# Altium schematic symbol library jlcpcb_2025_04_inductors_extended_1206.schlib: 159 symbols (part 1 of 3)
Pins are listed as number, name and electrical type; pins without a type are passive.

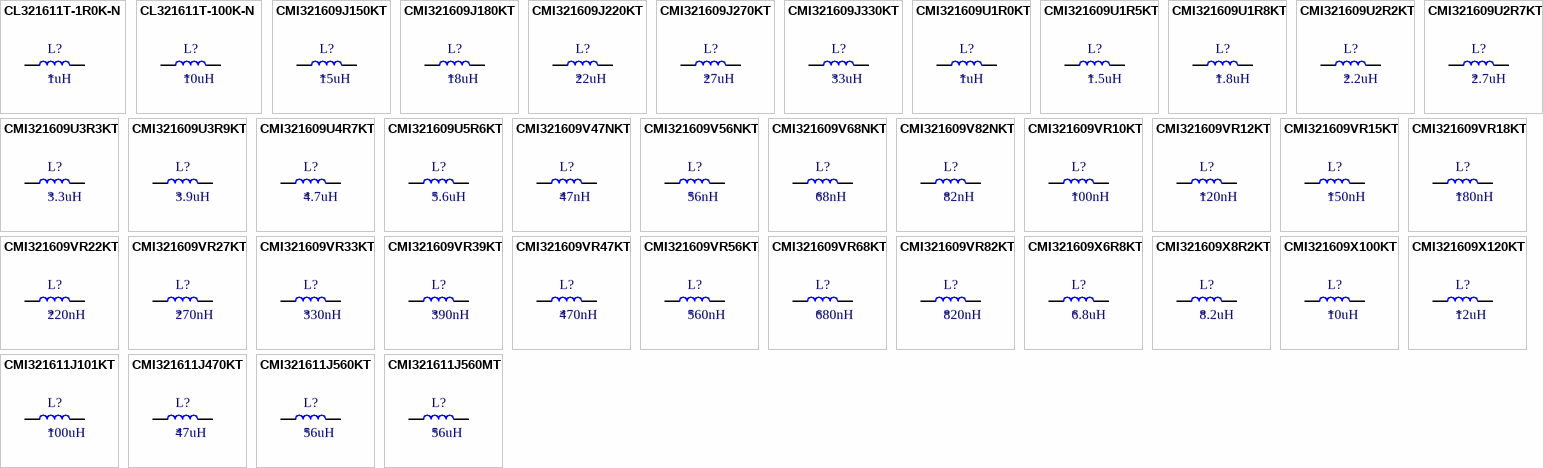
[diagram p0: symbols CL321611T-1R0K-N to CMI321611J560MT]

## CL321611T-1R0K-N
designator L?  Inductance: 1uH
Inductor, 1uH, ±10%, 400mΩ, 100mA, SMD 1206; Manufacturer: Chilisin Elec; Manufacturer Part Number: CL321611T-1R0K-N; Self-Resonant Frequency: 75MHz; Q Factor: 45@10MHz; Package Size: 1206; JLCPCB Basic Part: No; JLCPCB Part Number: C142261; Supplier 1: LCSC; Category: Inductors; Supplier Part Number 1: C142261; Tolerance: ±10%; Rated Current: 100mA; DC Resistance: 400mΩ; RoHS: Yes; ComponentLink1Description: Datasheet; ComponentLink1URL: https://wmsc.lcsc.com/wmsc/upload/file/pdf/v2/lcsc/2304140030_Chilisin-Elec-CL321611T-1R0K-N_C142261.pdf; ComponentLink2Description: JLCPCB Part URL; ComponentLink2URL: https://jlcpcb.com/partdetail/C142261; ComponentLink3Description: LCSC Part URL; ComponentLink3URL: https://lcsc.com/product-detail/Inductors-SMD_Chilisin-Elec-Chilisin-Elec-CL321611T-1R0K-N_C142261.html
footprint IND-1206 (1206 (3216M) Inductor)
pins: 1, 2

## CL321611T-100K-N
designator L?  Inductance: 10uH
Inductor, 10uH, ±10%, 1Ω, 25mA, SMD 1206; Manufacturer: Chilisin Elec; Manufacturer Part Number: CL321611T-100K-N; Self-Resonant Frequency: 24MHz; Q Factor: 45@2MHz; Package Size: 1206; JLCPCB Basic Part: No; JLCPCB Part Number: C280246; Supplier 1: LCSC; Category: Inductors; Supplier Part Number 1: C280246; Tolerance: ±10%; Rated Current: 25mA; DC Resistance: 1Ω; RoHS: Yes; ComponentLink1Description: Datasheet; ComponentLink1URL: https://wmsc.lcsc.com/wmsc/upload/file/pdf/v2/lcsc/2304140030_Chilisin-Elec-CL321611T-100K-N_C280246.pdf; ComponentLink2Description: JLCPCB Part URL; ComponentLink2URL: https://jlcpcb.com/partdetail/C280246; ComponentLink3Description: LCSC Part URL; ComponentLink3URL: https://lcsc.com/product-detail/Inductors-SMD_Chilisin-Elec-Chilisin-Elec-CL321611T-100K-N_C280246.html
footprint IND-1206 (1206 (3216M) Inductor)
pins: 1, 2

## CMI321609J150KT
designator L?  Inductance: 15uH
Inductor, 15uH, ±10%, 1Ω, 5mA, SMD 1206; Manufacturer: FH(Guangdong Fenghua Advanced Tech); Manufacturer Part Number: CMI321609J150KT; Self-Resonant Frequency: 19MHz; Q Factor: 30@1MHz; Package Size: 1206; JLCPCB Basic Part: No; JLCPCB Part Number: C139234; Supplier 1: LCSC; Category: Inductors; Supplier Part Number 1: C139234; Tolerance: ±10%; Rated Current: 5mA; DC Resistance: 1Ω; RoHS: Yes; ComponentLink1Description: Datasheet; ComponentLink1URL: https://wmsc.lcsc.com/wmsc/upload/file/pdf/v2/lcsc/2302231230_FH--Guangdong-Fenghua-Advanced-Tech-CMI321609J150KT_C139234.pdf; ComponentLink2Description: JLCPCB Part URL; ComponentLink2URL: https://jlcpcb.com/partdetail/C139234; ComponentLink3Description: LCSC Part URL; ComponentLink3URL: https://lcsc.com/product-detail/Inductors-SMD_FH-Guangdong-Fenghua-Advanced-Tech-FH-Guangdong-Fenghua-Advanced-Tech-CMI321609J150KT_C139234.html
footprint IND-1206 (1206 (3216M) Inductor)
pins: 1, 2

## CMI321609J180KT
designator L?  Inductance: 18uH
Inductor, 18uH, ±10%, 1Ω, 5mA, SMD 1206; Manufacturer: FH(Guangdong Fenghua Advanced Tech); Manufacturer Part Number: CMI321609J180KT; Self-Resonant Frequency: 18MHz; Q Factor: 30@1MHz; Package Size: 1206; JLCPCB Basic Part: No; JLCPCB Part Number: C316445; Supplier 1: LCSC; Category: Inductors; Supplier Part Number 1: C316445; Tolerance: ±10%; Rated Current: 5mA; DC Resistance: 1Ω; RoHS: Yes; ComponentLink1Description: Datasheet; ComponentLink1URL: https://wmsc.lcsc.com/wmsc/upload/file/pdf/v2/lcsc/2302231208_FH--Guangdong-Fenghua-Advanced-Tech-CMI321609J180KT_C316445.pdf; ComponentLink2Description: JLCPCB Part URL; ComponentLink2URL: https://jlcpcb.com/partdetail/C316445; ComponentLink3Description: LCSC Part URL; ComponentLink3URL: https://lcsc.com/product-detail/Inductors-SMD_FH-Guangdong-Fenghua-Advanced-Tech-FH-Guangdong-Fenghua-Advanced-Tech-CMI321609J180KT_C316445.html
footprint IND-1206 (1206 (3216M) Inductor)
pins: 1, 2

## CMI321609J220KT
designator L?  Inductance: 22uH
Inductor, 22uH, ±10%, 1.2Ω, 5mA, SMD 1206; Manufacturer: FH(Guangdong Fenghua Advanced Tech); Manufacturer Part Number: CMI321609J220KT; Self-Resonant Frequency: 16MHz; Q Factor: 30@1MHz; Package Size: 1206; JLCPCB Basic Part: No; JLCPCB Part Number: C64476; Supplier 1: LCSC; Category: Inductors; Supplier Part Number 1: C64476; Tolerance: ±10%; Rated Current: 5mA; DC Resistance: 1.2Ω; RoHS: Yes; ComponentLink1Description: Datasheet; ComponentLink1URL: https://wmsc.lcsc.com/wmsc/upload/file/pdf/v2/lcsc/2302231300_FH--Guangdong-Fenghua-Advanced-Tech-CMI321609J220KT_C64476.pdf; ComponentLink2Description: JLCPCB Part URL; ComponentLink2URL: https://jlcpcb.com/partdetail/C64476; ComponentLink3Description: LCSC Part URL; ComponentLink3URL: https://lcsc.com/product-detail/Inductors-SMD_FH-Guangdong-Fenghua-Advanced-Tech-FH-Guangdong-Fenghua-Advanced-Tech-CMI321609J220KT_C64476.html
footprint IND-1206 (1206 (3216M) Inductor)
pins: 1, 2

## CMI321609J270KT
designator L?  Inductance: 27uH
Inductor, 27uH, ±10%, 1.2Ω, 5mA, SMD 1206; Manufacturer: FH(Guangdong Fenghua Advanced Tech); Manufacturer Part Number: CMI321609J270KT; Self-Resonant Frequency: 14MHz; Q Factor: 30@1MHz; Package Size: 1206; JLCPCB Basic Part: No; JLCPCB Part Number: C394974; Supplier 1: LCSC; Category: Inductors; Supplier Part Number 1: C394974; Tolerance: ±10%; Rated Current: 5mA; DC Resistance: 1.2Ω; RoHS: Yes; ComponentLink1Description: Datasheet; ComponentLink1URL: https://wmsc.lcsc.com/wmsc/upload/file/pdf/v2/lcsc/2302231030_FH--Guangdong-Fenghua-Advanced-Tech-CMI321609J270KT_C394974.pdf; ComponentLink2Description: JLCPCB Part URL; ComponentLink2URL: https://jlcpcb.com/partdetail/C394974; ComponentLink3Description: LCSC Part URL; ComponentLink3URL: https://lcsc.com/product-detail/Inductors-SMD_FH-Guangdong-Fenghua-Advanced-Tech-FH-Guangdong-Fenghua-Advanced-Tech-CMI321609J270KT_C394974.html
footprint IND-1206 (1206 (3216M) Inductor)
pins: 1, 2

## CMI321609J330KT
designator L?  Inductance: 33uH
Inductor, 33uH, ±10%, 1.3Ω, 5mA, SMD 1206; Manufacturer: FH(Guangdong Fenghua Advanced Tech); Manufacturer Part Number: CMI321609J330KT; Self-Resonant Frequency: 13MHz; Q Factor: 30@1MHz; Package Size: 1206; JLCPCB Basic Part: No; JLCPCB Part Number: C316444; Supplier 1: LCSC; Category: Inductors; Supplier Part Number 1: C316444; Tolerance: ±10%; Rated Current: 5mA; DC Resistance: 1.3Ω; RoHS: Yes; ComponentLink1Description: Datasheet; ComponentLink1URL: https://wmsc.lcsc.com/wmsc/upload/file/pdf/v2/lcsc/2302231208_FH--Guangdong-Fenghua-Advanced-Tech-CMI321609J330KT_C316444.pdf; ComponentLink2Description: JLCPCB Part URL; ComponentLink2URL: https://jlcpcb.com/partdetail/C316444; ComponentLink3Description: LCSC Part URL; ComponentLink3URL: https://lcsc.com/product-detail/Inductors-SMD_FH-Guangdong-Fenghua-Advanced-Tech-FH-Guangdong-Fenghua-Advanced-Tech-CMI321609J330KT_C316444.html
footprint IND-1206 (1206 (3216M) Inductor)
pins: 1, 2

## CMI321609U1R0KT
designator L?  Inductance: 1uH
Inductor, 1uH, ±10%, 300mΩ, 100mA, SMD 1206; Manufacturer: FH(Guangdong Fenghua Advanced Tech); Manufacturer Part Number: CMI321609U1R0KT; Self-Resonant Frequency: 75MHz; Q Factor: 35@10MHz; Package Size: 1206; JLCPCB Basic Part: No; JLCPCB Part Number: C74473; Supplier 1: LCSC; Category: Inductors; Supplier Part Number 1: C74473; Tolerance: ±10%; Rated Current: 100mA; DC Resistance: 300mΩ; RoHS: Yes; ComponentLink1Description: Datasheet; ComponentLink1URL: https://wmsc.lcsc.com/wmsc/upload/file/pdf/v2/lcsc/2302231101_FH--Guangdong-Fenghua-Advanced-Tech-CMI321609U1R0KT_C74473.pdf; ComponentLink2Description: JLCPCB Part URL; ComponentLink2URL: https://jlcpcb.com/partdetail/C74473; ComponentLink3Description: LCSC Part URL; ComponentLink3URL: https://lcsc.com/product-detail/Inductors-SMD_FH-Guangdong-Fenghua-Advanced-Tech-FH-Guangdong-Fenghua-Advanced-Tech-CMI321609U1R0KT_C74473.html
footprint IND-1206 (1206 (3216M) Inductor)
pins: 1, 2

## CMI321609U1R5KT
designator L?  Inductance: 1.5uH
Inductor, 1.5uH, ±10%, 400mΩ, 50mA, SMD 1206; Manufacturer: FH(Guangdong Fenghua Advanced Tech); Manufacturer Part Number: CMI321609U1R5KT; Self-Resonant Frequency: 60MHz; Q Factor: 35@10MHz; Package Size: 1206; JLCPCB Basic Part: No; JLCPCB Part Number: C74477; Supplier 1: LCSC; Category: Inductors; Supplier Part Number 1: C74477; Tolerance: ±10%; Rated Current: 50mA; DC Resistance: 400mΩ; RoHS: Yes; ComponentLink1Description: Datasheet; ComponentLink1URL: https://wmsc.lcsc.com/wmsc/upload/file/pdf/v2/lcsc/2302231101_FH--Guangdong-Fenghua-Advanced-Tech-CMI321609U1R5KT_C74477.pdf; ComponentLink2Description: JLCPCB Part URL; ComponentLink2URL: https://jlcpcb.com/partdetail/C74477; ComponentLink3Description: LCSC Part URL; ComponentLink3URL: https://lcsc.com/product-detail/Inductors-SMD_FH-Guangdong-Fenghua-Advanced-Tech-FH-Guangdong-Fenghua-Advanced-Tech-CMI321609U1R5KT_C74477.html
footprint IND-1206 (1206 (3216M) Inductor)
pins: 1, 2

## CMI321609U1R8KT
designator L?  Inductance: 1.8uH
Inductor, 1.8uH, ±10%, 400mΩ, 50mA, SMD 1206; Manufacturer: FH(Guangdong Fenghua Advanced Tech); Manufacturer Part Number: CMI321609U1R8KT; Self-Resonant Frequency: 55MHz; Q Factor: 35@10MHz; Package Size: 1206; JLCPCB Basic Part: No; JLCPCB Part Number: C74476; Supplier 1: LCSC; Category: Inductors; Supplier Part Number 1: C74476; Tolerance: ±10%; Rated Current: 50mA; DC Resistance: 400mΩ; RoHS: Yes; ComponentLink1Description: Datasheet; ComponentLink1URL: https://wmsc.lcsc.com/wmsc/upload/file/pdf/v2/lcsc/2302231101_FH--Guangdong-Fenghua-Advanced-Tech-CMI321609U1R8KT_C74476.pdf; ComponentLink2Description: JLCPCB Part URL; ComponentLink2URL: https://jlcpcb.com/partdetail/C74476; ComponentLink3Description: LCSC Part URL; ComponentLink3URL: https://lcsc.com/product-detail/Inductors-SMD_FH-Guangdong-Fenghua-Advanced-Tech-FH-Guangdong-Fenghua-Advanced-Tech-CMI321609U1R8KT_C74476.html
footprint IND-1206 (1206 (3216M) Inductor)
pins: 1, 2

## CMI321609U2R2KT
designator L?  Inductance: 2.2uH
Inductor, 2.2uH, ±10%, 500mΩ, 50mA, SMD 1206; Manufacturer: FH(Guangdong Fenghua Advanced Tech); Manufacturer Part Number: CMI321609U2R2KT; Self-Resonant Frequency: 50MHz; Q Factor: 35@10MHz; Package Size: 1206; JLCPCB Basic Part: No; JLCPCB Part Number: C1048; Supplier 1: LCSC; Category: Inductors; Supplier Part Number 1: C1048; Tolerance: ±10%; Rated Current: 50mA; DC Resistance: 500mΩ; RoHS: Yes; ComponentLink1Description: Datasheet; ComponentLink1URL: https://wmsc.lcsc.com/wmsc/upload/file/pdf/v2/lcsc/2302231101_FH--Guangdong-Fenghua-Advanced-Tech-CMI321609U2R2KT_C1048.pdf; ComponentLink2Description: JLCPCB Part URL; ComponentLink2URL: https://jlcpcb.com/partdetail/C1048; ComponentLink3Description: LCSC Part URL; ComponentLink3URL: https://lcsc.com/product-detail/Inductors-SMD_FH-Guangdong-Fenghua-Advanced-Tech-FH-Guangdong-Fenghua-Advanced-Tech-CMI321609U2R2KT_C1048.html
footprint IND-1206 (1206 (3216M) Inductor)
pins: 1, 2

## CMI321609U2R7KT
designator L?  Inductance: 2.7uH
Inductor, 2.7uH, ±10%, 500mΩ, 50mA, SMD 1206; Manufacturer: FH(Guangdong Fenghua Advanced Tech); Manufacturer Part Number: CMI321609U2R7KT; Self-Resonant Frequency: 45MHz; Q Factor: 35@10MHz; Package Size: 1206; JLCPCB Basic Part: No; JLCPCB Part Number: C316443; Supplier 1: LCSC; Category: Inductors; Supplier Part Number 1: C316443; Tolerance: ±10%; Rated Current: 50mA; DC Resistance: 500mΩ; RoHS: Yes; ComponentLink1Description: Datasheet; ComponentLink1URL: https://wmsc.lcsc.com/wmsc/upload/file/pdf/v2/lcsc/2302231030_FH--Guangdong-Fenghua-Advanced-Tech-CMI321609U2R7KT_C316443.pdf; ComponentLink2Description: JLCPCB Part URL; ComponentLink2URL: https://jlcpcb.com/partdetail/C316443; ComponentLink3Description: LCSC Part URL; ComponentLink3URL: https://lcsc.com/product-detail/Inductors-SMD_FH-Guangdong-Fenghua-Advanced-Tech-FH-Guangdong-Fenghua-Advanced-Tech-CMI321609U2R7KT_C316443.html
footprint IND-1206 (1206 (3216M) Inductor)
pins: 1, 2

## CMI321609U3R3KT
designator L?  Inductance: 3.3uH
Inductor, 3.3uH, ±10%, 500mΩ, 50mA, SMD 1206; Manufacturer: FH(Guangdong Fenghua Advanced Tech); Manufacturer Part Number: CMI321609U3R3KT; Self-Resonant Frequency: 41MHz; Q Factor: 35@10MHz; Package Size: 1206; JLCPCB Basic Part: No; JLCPCB Part Number: C74471; Supplier 1: LCSC; Category: Inductors; Supplier Part Number 1: C74471; Tolerance: ±10%; Rated Current: 50mA; DC Resistance: 500mΩ; RoHS: Yes; ComponentLink1Description: Datasheet; ComponentLink1URL: https://wmsc.lcsc.com/wmsc/upload/file/pdf/v2/lcsc/2302231101_FH--Guangdong-Fenghua-Advanced-Tech-CMI321609U3R3KT_C74471.pdf; ComponentLink2Description: JLCPCB Part URL; ComponentLink2URL: https://jlcpcb.com/partdetail/C74471; ComponentLink3Description: LCSC Part URL; ComponentLink3URL: https://lcsc.com/product-detail/Inductors-SMD_FH-Guangdong-Fenghua-Advanced-Tech-FH-Guangdong-Fenghua-Advanced-Tech-CMI321609U3R3KT_C74471.html
footprint IND-1206 (1206 (3216M) Inductor)
pins: 1, 2

## CMI321609U3R9KT
designator L?  Inductance: 3.9uH
Inductor, 3.9uH, ±10%, 600mΩ, 50mA, SMD 1206; Manufacturer: FH(Guangdong Fenghua Advanced Tech); Manufacturer Part Number: CMI321609U3R9KT; Self-Resonant Frequency: 38MHz; Q Factor: 35@10MHz; Package Size: 1206; JLCPCB Basic Part: No; JLCPCB Part Number: C74472; Supplier 1: LCSC; Category: Inductors; Supplier Part Number 1: C74472; Tolerance: ±10%; Rated Current: 50mA; DC Resistance: 600mΩ; RoHS: Yes; ComponentLink1Description: Datasheet; ComponentLink1URL: https://wmsc.lcsc.com/wmsc/upload/file/pdf/v2/lcsc/2302231101_FH--Guangdong-Fenghua-Advanced-Tech-CMI321609U3R9KT_C74472.pdf; ComponentLink2Description: JLCPCB Part URL; ComponentLink2URL: https://jlcpcb.com/partdetail/C74472; ComponentLink3Description: LCSC Part URL; ComponentLink3URL: https://lcsc.com/product-detail/Inductors-SMD_FH-Guangdong-Fenghua-Advanced-Tech-FH-Guangdong-Fenghua-Advanced-Tech-CMI321609U3R9KT_C74472.html
footprint IND-1206 (1206 (3216M) Inductor)
pins: 1, 2

## CMI321609U4R7KT
designator L?  Inductance: 4.7uH
Inductor, 4.7uH, ±10%, 650mΩ, 25mA, SMD 1206; Manufacturer: FH(Guangdong Fenghua Advanced Tech); Manufacturer Part Number: CMI321609U4R7KT; Self-Resonant Frequency: 35MHz; Q Factor: 35@10MHz; Package Size: 1206; JLCPCB Basic Part: No; JLCPCB Part Number: C1049; Supplier 1: LCSC; Category: Inductors; Supplier Part Number 1: C1049; Tolerance: ±10%; Rated Current: 25mA; DC Resistance: 650mΩ; RoHS: Yes; ComponentLink1Description: Datasheet; ComponentLink1URL: https://wmsc.lcsc.com/wmsc/upload/file/pdf/v2/lcsc/2302231101_FH--Guangdong-Fenghua-Advanced-Tech-CMI321609U4R7KT_C1049.pdf; ComponentLink2Description: JLCPCB Part URL; ComponentLink2URL: https://jlcpcb.com/partdetail/C1049; ComponentLink3Description: LCSC Part URL; ComponentLink3URL: https://lcsc.com/product-detail/Inductors-SMD_FH-Guangdong-Fenghua-Advanced-Tech-FH-Guangdong-Fenghua-Advanced-Tech-CMI321609U4R7KT_C1049.html
footprint IND-1206 (1206 (3216M) Inductor)
pins: 1, 2

## CMI321609U5R6KT
designator L?  Inductance: 5.6uH
Inductor, 5.6uH, ±10%, 800mΩ, 25mA, SMD 1206; Manufacturer: FH(Guangdong Fenghua Advanced Tech); Manufacturer Part Number: CMI321609U5R6KT; Self-Resonant Frequency: 32MHz; Q Factor: 35@4MHz; Package Size: 1206; JLCPCB Basic Part: No; JLCPCB Part Number: C1050; Supplier 1: LCSC; Category: Inductors; Supplier Part Number 1: C1050; Tolerance: ±10%; Rated Current: 25mA; DC Resistance: 800mΩ; RoHS: Yes; ComponentLink1Description: Datasheet; ComponentLink1URL: https://wmsc.lcsc.com/wmsc/upload/file/pdf/v2/lcsc/2302231101_FH--Guangdong-Fenghua-Advanced-Tech-CMI321609U5R6KT_C1050.pdf; ComponentLink2Description: JLCPCB Part URL; ComponentLink2URL: https://jlcpcb.com/partdetail/C1050; ComponentLink3Description: LCSC Part URL; ComponentLink3URL: https://lcsc.com/product-detail/Inductors-SMD_FH-Guangdong-Fenghua-Advanced-Tech-FH-Guangdong-Fenghua-Advanced-Tech-CMI321609U5R6KT_C1050.html
footprint IND-1206 (1206 (3216M) Inductor)
pins: 1, 2

## CMI321609V47NKT
designator L?  Inductance: 47nH
Inductor, 47nH, ±10%, 150mΩ, 300mA, SMD 1206; Manufacturer: FH(Guangdong Fenghua Advanced Tech); Manufacturer Part Number: CMI321609V47NKT; Self-Resonant Frequency: 320MHz; Q Factor: 30@50MHz; Package Size: 1206; JLCPCB Basic Part: No; JLCPCB Part Number: C394976; Supplier 1: LCSC; Category: Inductors; Supplier Part Number 1: C394976; Tolerance: ±10%; Rated Current: 300mA; DC Resistance: 150mΩ; RoHS: Yes; ComponentLink1Description: Datasheet; ComponentLink1URL: https://wmsc.lcsc.com/wmsc/upload/file/pdf/v2/lcsc/2302231030_FH--Guangdong-Fenghua-Advanced-Tech-CMI321609V47NKT_C394976.pdf; ComponentLink2Description: JLCPCB Part URL; ComponentLink2URL: https://jlcpcb.com/partdetail/C394976; ComponentLink3Description: LCSC Part URL; ComponentLink3URL: https://lcsc.com/product-detail/Inductors-SMD_FH-Guangdong-Fenghua-Advanced-Tech-FH-Guangdong-Fenghua-Advanced-Tech-CMI321609V47NKT_C394976.html
footprint IND-1206 (1206 (3216M) Inductor)
pins: 1, 2

## CMI321609V56NKT
designator L?  Inductance: 56nH
Inductor, 56nH, ±10%, 200mΩ, 300mA, SMD 1206; Manufacturer: FH(Guangdong Fenghua Advanced Tech); Manufacturer Part Number: CMI321609V56NKT; Self-Resonant Frequency: 320MHz; Q Factor: 30@50MHz; Package Size: 1206; JLCPCB Basic Part: No; JLCPCB Part Number: C394977; Supplier 1: LCSC; Category: Inductors; Supplier Part Number 1: C394977; Tolerance: ±10%; Rated Current: 300mA; DC Resistance: 200mΩ; RoHS: Yes; ComponentLink1Description: Datasheet; ComponentLink1URL: https://wmsc.lcsc.com/wmsc/upload/file/pdf/v2/lcsc/2302231030_FH--Guangdong-Fenghua-Advanced-Tech-CMI321609V56NKT_C394977.pdf; ComponentLink2Description: JLCPCB Part URL; ComponentLink2URL: https://jlcpcb.com/partdetail/C394977; ComponentLink3Description: LCSC Part URL; ComponentLink3URL: https://lcsc.com/product-detail/Inductors-SMD_FH-Guangdong-Fenghua-Advanced-Tech-FH-Guangdong-Fenghua-Advanced-Tech-CMI321609V56NKT_C394977.html
footprint IND-1206 (1206 (3216M) Inductor)
pins: 1, 2

## CMI321609V68NKT
designator L?  Inductance: 68nH
Inductor, 68nH, ±10%, 250mΩ, 300mA, SMD 1206; Manufacturer: FH(Guangdong Fenghua Advanced Tech); Manufacturer Part Number: CMI321609V68NKT; Self-Resonant Frequency: 280MHz; Q Factor: 30@50MHz; Package Size: 1206; JLCPCB Basic Part: No; JLCPCB Part Number: C394978; Supplier 1: LCSC; Category: Inductors; Supplier Part Number 1: C394978; Tolerance: ±10%; Rated Current: 300mA; DC Resistance: 250mΩ; RoHS: Yes; ComponentLink1Description: Datasheet; ComponentLink1URL: https://wmsc.lcsc.com/wmsc/upload/file/pdf/v2/lcsc/2302231030_FH--Guangdong-Fenghua-Advanced-Tech-CMI321609V68NKT_C394978.pdf; ComponentLink2Description: JLCPCB Part URL; ComponentLink2URL: https://jlcpcb.com/partdetail/C394978; ComponentLink3Description: LCSC Part URL; ComponentLink3URL: https://lcsc.com/product-detail/Inductors-SMD_FH-Guangdong-Fenghua-Advanced-Tech-FH-Guangdong-Fenghua-Advanced-Tech-CMI321609V68NKT_C394978.html
footprint IND-1206 (1206 (3216M) Inductor)
pins: 1, 2

## CMI321609V82NKT
designator L?  Inductance: 82nH
Inductor, 82nH, ±10%, 250mΩ, 300mA, SMD 1206; Manufacturer: FH(Guangdong Fenghua Advanced Tech); Manufacturer Part Number: CMI321609V82NKT; Self-Resonant Frequency: 280MHz; Q Factor: 30@50MHz; Package Size: 1206; JLCPCB Basic Part: No; JLCPCB Part Number: C394979; Supplier 1: LCSC; Category: Inductors; Supplier Part Number 1: C394979; Tolerance: ±10%; Rated Current: 300mA; DC Resistance: 250mΩ; RoHS: Yes; ComponentLink1Description: Datasheet; ComponentLink1URL: https://wmsc.lcsc.com/wmsc/upload/file/pdf/v2/lcsc/2302231030_FH--Guangdong-Fenghua-Advanced-Tech-CMI321609V82NKT_C394979.pdf; ComponentLink2Description: JLCPCB Part URL; ComponentLink2URL: https://jlcpcb.com/partdetail/C394979; ComponentLink3Description: LCSC Part URL; ComponentLink3URL: https://lcsc.com/product-detail/Inductors-SMD_FH-Guangdong-Fenghua-Advanced-Tech-FH-Guangdong-Fenghua-Advanced-Tech-CMI321609V82NKT_C394979.html
footprint IND-1206 (1206 (3216M) Inductor)
pins: 1, 2

## CMI321609VR10KT
designator L?  Inductance: 100nH
Inductor, 100nH, ±10%, 250mΩ, 250mA, SMD 1206; Manufacturer: FH(Guangdong Fenghua Advanced Tech); Manufacturer Part Number: CMI321609VR10KT; Self-Resonant Frequency: 235MHz; Q Factor: 25@25MHz; Package Size: 1206; JLCPCB Basic Part: No; JLCPCB Part Number: C139235; Supplier 1: LCSC; Category: Inductors; Supplier Part Number 1: C139235; Tolerance: ±10%; Rated Current: 250mA; DC Resistance: 250mΩ; RoHS: Yes; ComponentLink1Description: Datasheet; ComponentLink1URL: https://wmsc.lcsc.com/wmsc/upload/file/pdf/v2/lcsc/2302231230_FH--Guangdong-Fenghua-Advanced-Tech-CMI321609VR10KT_C139235.pdf; ComponentLink2Description: JLCPCB Part URL; ComponentLink2URL: https://jlcpcb.com/partdetail/C139235; ComponentLink3Description: LCSC Part URL; ComponentLink3URL: https://lcsc.com/product-detail/Inductors-SMD_FH-Guangdong-Fenghua-Advanced-Tech-FH-Guangdong-Fenghua-Advanced-Tech-CMI321609VR10KT_C139235.html
footprint IND-1206 (1206 (3216M) Inductor)
pins: 1, 2

## CMI321609VR12KT
designator L?  Inductance: 120nH
Inductor, 120nH, ±10%, 250mΩ, 250mA, SMD 1206; Manufacturer: FH(Guangdong Fenghua Advanced Tech); Manufacturer Part Number: CMI321609VR12KT; Self-Resonant Frequency: 220MHz; Q Factor: 25@25MHz; Package Size: 1206; JLCPCB Basic Part: No; JLCPCB Part Number: C74474; Supplier 1: LCSC; Category: Inductors; Supplier Part Number 1: C74474; Tolerance: ±10%; Rated Current: 250mA; DC Resistance: 250mΩ; RoHS: Yes; ComponentLink1Description: Datasheet; ComponentLink1URL: https://wmsc.lcsc.com/wmsc/upload/file/pdf/v2/lcsc/2302231101_FH--Guangdong-Fenghua-Advanced-Tech-CMI321609VR12KT_C74474.pdf; ComponentLink2Description: JLCPCB Part URL; ComponentLink2URL: https://jlcpcb.com/partdetail/C74474; ComponentLink3Description: LCSC Part URL; ComponentLink3URL: https://lcsc.com/product-detail/Inductors-SMD_FH-Guangdong-Fenghua-Advanced-Tech-FH-Guangdong-Fenghua-Advanced-Tech-CMI321609VR12KT_C74474.html
footprint IND-1206 (1206 (3216M) Inductor)
pins: 1, 2

## CMI321609VR15KT
designator L?  Inductance: 150nH
Inductor, 150nH, ±10%, 250mΩ, 250mA, SMD 1206; Manufacturer: FH(Guangdong Fenghua Advanced Tech); Manufacturer Part Number: CMI321609VR15KT; Self-Resonant Frequency: 200MHz; Q Factor: 25@25MHz; Package Size: 1206; JLCPCB Basic Part: No; JLCPCB Part Number: C394980; Supplier 1: LCSC; Category: Inductors; Supplier Part Number 1: C394980; Tolerance: ±10%; Rated Current: 250mA; DC Resistance: 250mΩ; RoHS: Yes; ComponentLink1Description: Datasheet; ComponentLink1URL: https://wmsc.lcsc.com/wmsc/upload/file/pdf/v2/lcsc/2302231030_FH--Guangdong-Fenghua-Advanced-Tech-CMI321609VR15KT_C394980.pdf; ComponentLink2Description: JLCPCB Part URL; ComponentLink2URL: https://jlcpcb.com/partdetail/C394980; ComponentLink3Description: LCSC Part URL; ComponentLink3URL: https://lcsc.com/product-detail/Inductors-SMD_FH-Guangdong-Fenghua-Advanced-Tech-FH-Guangdong-Fenghua-Advanced-Tech-CMI321609VR15KT_C394980.html
footprint IND-1206 (1206 (3216M) Inductor)
pins: 1, 2

## CMI321609VR18KT
designator L?  Inductance: 180nH
Inductor, 180nH, ±10%, 300mΩ, 250mA, SMD 1206; Manufacturer: FH(Guangdong Fenghua Advanced Tech); Manufacturer Part Number: CMI321609VR18KT; Self-Resonant Frequency: 185MHz; Q Factor: 25@25MHz; Package Size: 1206; JLCPCB Basic Part: No; JLCPCB Part Number: C394981; Supplier 1: LCSC; Category: Inductors; Supplier Part Number 1: C394981; Tolerance: ±10%; Rated Current: 250mA; DC Resistance: 300mΩ; RoHS: Yes; ComponentLink1Description: Datasheet; ComponentLink1URL: https://wmsc.lcsc.com/wmsc/upload/file/pdf/v2/lcsc/2302231030_FH--Guangdong-Fenghua-Advanced-Tech-CMI321609VR18KT_C394981.pdf; ComponentLink2Description: JLCPCB Part URL; ComponentLink2URL: https://jlcpcb.com/partdetail/C394981; ComponentLink3Description: LCSC Part URL; ComponentLink3URL: https://lcsc.com/product-detail/Inductors-SMD_FH-Guangdong-Fenghua-Advanced-Tech-FH-Guangdong-Fenghua-Advanced-Tech-CMI321609VR18KT_C394981.html
footprint IND-1206 (1206 (3216M) Inductor)
pins: 1, 2

## CMI321609VR22KT
designator L?  Inductance: 220nH
Inductor, 220nH, ±10%, 300mΩ, 250mA, SMD 1206; Manufacturer: FH(Guangdong Fenghua Advanced Tech); Manufacturer Part Number: CMI321609VR22KT; Self-Resonant Frequency: 170MHz; Q Factor: 25@25MHz; Package Size: 1206; JLCPCB Basic Part: No; JLCPCB Part Number: C139236; Supplier 1: LCSC; Category: Inductors; Supplier Part Number 1: C139236; Tolerance: ±10%; Rated Current: 250mA; DC Resistance: 300mΩ; RoHS: Yes; ComponentLink1Description: Datasheet; ComponentLink1URL: https://wmsc.lcsc.com/wmsc/upload/file/pdf/v2/lcsc/2302231230_FH--Guangdong-Fenghua-Advanced-Tech-CMI321609VR22KT_C139236.pdf; ComponentLink2Description: JLCPCB Part URL; ComponentLink2URL: https://jlcpcb.com/partdetail/C139236; ComponentLink3Description: LCSC Part URL; ComponentLink3URL: https://lcsc.com/product-detail/Inductors-SMD_FH-Guangdong-Fenghua-Advanced-Tech-FH-Guangdong-Fenghua-Advanced-Tech-CMI321609VR22KT_C139236.html
footprint IND-1206 (1206 (3216M) Inductor)
pins: 1, 2

## CMI321609VR27KT
designator L?  Inductance: 270nH
Inductor, 270nH, ±10%, 300mΩ, 250mA, SMD 1206; Manufacturer: FH(Guangdong Fenghua Advanced Tech); Manufacturer Part Number: CMI321609VR27KT; Self-Resonant Frequency: 150MHz; Q Factor: 25@25MHz; Package Size: 1206; JLCPCB Basic Part: No; JLCPCB Part Number: C394982; Supplier 1: LCSC; Category: Inductors; Supplier Part Number 1: C394982; Tolerance: ±10%; Rated Current: 250mA; DC Resistance: 300mΩ; RoHS: Yes; ComponentLink1Description: Datasheet; ComponentLink1URL: https://wmsc.lcsc.com/wmsc/upload/file/pdf/v2/lcsc/2302231030_FH--Guangdong-Fenghua-Advanced-Tech-CMI321609VR27KT_C394982.pdf; ComponentLink2Description: JLCPCB Part URL; ComponentLink2URL: https://jlcpcb.com/partdetail/C394982; ComponentLink3Description: LCSC Part URL; ComponentLink3URL: https://lcsc.com/product-detail/Inductors-SMD_FH-Guangdong-Fenghua-Advanced-Tech-FH-Guangdong-Fenghua-Advanced-Tech-CMI321609VR27KT_C394982.html
footprint IND-1206 (1206 (3216M) Inductor)
pins: 1, 2

## CMI321609VR33KT
designator L?  Inductance: 330nH
Inductor, 330nH, ±10%, 300mΩ, 250mA, SMD 1206; Manufacturer: FH(Guangdong Fenghua Advanced Tech); Manufacturer Part Number: CMI321609VR33KT; Self-Resonant Frequency: 145MHz; Q Factor: 25@25MHz; Package Size: 1206; JLCPCB Basic Part: No; JLCPCB Part Number: C394983; Supplier 1: LCSC; Category: Inductors; Supplier Part Number 1: C394983; Tolerance: ±10%; Rated Current: 250mA; DC Resistance: 300mΩ; RoHS: Yes; ComponentLink1Description: Datasheet; ComponentLink1URL: https://wmsc.lcsc.com/wmsc/upload/file/pdf/v2/lcsc/2302231030_FH--Guangdong-Fenghua-Advanced-Tech-CMI321609VR33KT_C394983.pdf; ComponentLink2Description: JLCPCB Part URL; ComponentLink2URL: https://jlcpcb.com/partdetail/C394983; ComponentLink3Description: LCSC Part URL; ComponentLink3URL: https://lcsc.com/product-detail/Inductors-SMD_FH-Guangdong-Fenghua-Advanced-Tech-FH-Guangdong-Fenghua-Advanced-Tech-CMI321609VR33KT_C394983.html
footprint IND-1206 (1206 (3216M) Inductor)
pins: 1, 2

## CMI321609VR39KT
designator L?  Inductance: 390nH
Inductor, 390nH, ±10%, 500mΩ, 200mA, SMD 1206; Manufacturer: FH(Guangdong Fenghua Advanced Tech); Manufacturer Part Number: CMI321609VR39KT; Self-Resonant Frequency: 135MHz; Q Factor: 30@25MHz; Package Size: 1206; JLCPCB Basic Part: No; JLCPCB Part Number: C394984; Supplier 1: LCSC; Category: Inductors; Supplier Part Number 1: C394984; Tolerance: ±10%; Rated Current: 200mA; DC Resistance: 500mΩ; RoHS: Yes; ComponentLink1Description: Datasheet; ComponentLink1URL: https://wmsc.lcsc.com/wmsc/upload/file/pdf/v2/lcsc/2302231030_FH--Guangdong-Fenghua-Advanced-Tech-CMI321609VR39KT_C394984.pdf; ComponentLink2Description: JLCPCB Part URL; ComponentLink2URL: https://jlcpcb.com/partdetail/C394984; ComponentLink3Description: LCSC Part URL; ComponentLink3URL: https://lcsc.com/product-detail/Inductors-SMD_FH-Guangdong-Fenghua-Advanced-Tech-FH-Guangdong-Fenghua-Advanced-Tech-CMI321609VR39KT_C394984.html
footprint IND-1206 (1206 (3216M) Inductor)
pins: 1, 2

## CMI321609VR47KT
designator L?  Inductance: 470nH
Inductor, 470nH, ±10%, 500mΩ, 200mA, SMD 1206; Manufacturer: FH(Guangdong Fenghua Advanced Tech); Manufacturer Part Number: CMI321609VR47KT; Self-Resonant Frequency: 125MHz; Q Factor: 30@25MHz; Package Size: 1206; JLCPCB Basic Part: No; JLCPCB Part Number: C394985; Supplier 1: LCSC; Category: Inductors; Supplier Part Number 1: C394985; Tolerance: ±10%; Rated Current: 200mA; DC Resistance: 500mΩ; RoHS: Yes; ComponentLink1Description: Datasheet; ComponentLink1URL: https://wmsc.lcsc.com/wmsc/upload/file/pdf/v2/lcsc/2302231030_FH--Guangdong-Fenghua-Advanced-Tech-CMI321609VR47KT_C394985.pdf; ComponentLink2Description: JLCPCB Part URL; ComponentLink2URL: https://jlcpcb.com/partdetail/C394985; ComponentLink3Description: LCSC Part URL; ComponentLink3URL: https://lcsc.com/product-detail/Inductors-SMD_FH-Guangdong-Fenghua-Advanced-Tech-FH-Guangdong-Fenghua-Advanced-Tech-CMI321609VR47KT_C394985.html
footprint IND-1206 (1206 (3216M) Inductor)
pins: 1, 2

## CMI321609VR56KT
designator L?  Inductance: 560nH
Inductor, 560nH, ±10%, 500mΩ, 150mA, SMD 1206; Manufacturer: FH(Guangdong Fenghua Advanced Tech); Manufacturer Part Number: CMI321609VR56KT; Self-Resonant Frequency: 115MHz; Q Factor: 30@25MHz; Package Size: 1206; JLCPCB Basic Part: No; JLCPCB Part Number: C394986; Supplier 1: LCSC; Category: Inductors; Supplier Part Number 1: C394986; Tolerance: ±10%; Rated Current: 150mA; DC Resistance: 500mΩ; RoHS: Yes; ComponentLink1Description: Datasheet; ComponentLink1URL: https://wmsc.lcsc.com/wmsc/upload/file/pdf/v2/lcsc/2302231030_FH--Guangdong-Fenghua-Advanced-Tech-CMI321609VR56KT_C394986.pdf; ComponentLink2Description: JLCPCB Part URL; ComponentLink2URL: https://jlcpcb.com/partdetail/C394986; ComponentLink3Description: LCSC Part URL; ComponentLink3URL: https://lcsc.com/product-detail/Inductors-SMD_FH-Guangdong-Fenghua-Advanced-Tech-FH-Guangdong-Fenghua-Advanced-Tech-CMI321609VR56KT_C394986.html
footprint IND-1206 (1206 (3216M) Inductor)
pins: 1, 2

## CMI321609VR68KT
designator L?  Inductance: 680nH
Inductor, 680nH, ±10%, 500mΩ, 150mA, SMD 1206; Manufacturer: FH(Guangdong Fenghua Advanced Tech); Manufacturer Part Number: CMI321609VR68KT; Self-Resonant Frequency: 105MHz; Q Factor: 30@25MHz; Package Size: 1206; JLCPCB Basic Part: No; JLCPCB Part Number: C139237; Supplier 1: LCSC; Category: Inductors; Supplier Part Number 1: C139237; Tolerance: ±10%; Rated Current: 150mA; DC Resistance: 500mΩ; RoHS: Yes; ComponentLink1Description: Datasheet; ComponentLink1URL: https://wmsc.lcsc.com/wmsc/upload/file/pdf/v2/lcsc/2302231230_FH--Guangdong-Fenghua-Advanced-Tech-CMI321609VR68KT_C139237.pdf; ComponentLink2Description: JLCPCB Part URL; ComponentLink2URL: https://jlcpcb.com/partdetail/C139237; ComponentLink3Description: LCSC Part URL; ComponentLink3URL: https://lcsc.com/product-detail/Inductors-SMD_FH-Guangdong-Fenghua-Advanced-Tech-FH-Guangdong-Fenghua-Advanced-Tech-CMI321609VR68KT_C139237.html
footprint IND-1206 (1206 (3216M) Inductor)
pins: 1, 2

## CMI321609VR82KT
designator L?  Inductance: 820nH
Inductor, 820nH, ±10%, 600mΩ, 150mA, SMD 1206; Manufacturer: FH(Guangdong Fenghua Advanced Tech); Manufacturer Part Number: CMI321609VR82KT; Self-Resonant Frequency: 100MHz; Q Factor: 30@25MHz; Package Size: 1206; JLCPCB Basic Part: No; JLCPCB Part Number: C394987; Supplier 1: LCSC; Category: Inductors; Supplier Part Number 1: C394987; Tolerance: ±10%; Rated Current: 150mA; DC Resistance: 600mΩ; RoHS: Yes; ComponentLink1Description: Datasheet; ComponentLink1URL: https://wmsc.lcsc.com/wmsc/upload/file/pdf/v2/lcsc/2302231030_FH--Guangdong-Fenghua-Advanced-Tech-CMI321609VR82KT_C394987.pdf; ComponentLink2Description: JLCPCB Part URL; ComponentLink2URL: https://jlcpcb.com/partdetail/C394987; ComponentLink3Description: LCSC Part URL; ComponentLink3URL: https://lcsc.com/product-detail/Inductors-SMD_FH-Guangdong-Fenghua-Advanced-Tech-FH-Guangdong-Fenghua-Advanced-Tech-CMI321609VR82KT_C394987.html
footprint IND-1206 (1206 (3216M) Inductor)
pins: 1, 2

## CMI321609X6R8KT
designator L?  Inductance: 6.8uH
Inductor, 6.8uH, ±10%, 800mΩ, 25mA, SMD 1206; Manufacturer: FH(Guangdong Fenghua Advanced Tech); Manufacturer Part Number: CMI321609X6R8KT; Self-Resonant Frequency: 29MHz; Q Factor: 35@4MHz; Package Size: 1206; JLCPCB Basic Part: No; JLCPCB Part Number: C139238; Supplier 1: LCSC; Category: Inductors; Supplier Part Number 1: C139238; Tolerance: ±10%; Rated Current: 25mA; DC Resistance: 800mΩ; RoHS: Yes; ComponentLink1Description: Datasheet; ComponentLink1URL: https://wmsc.lcsc.com/wmsc/upload/file/pdf/v2/lcsc/2302231230_FH--Guangdong-Fenghua-Advanced-Tech-CMI321609X6R8KT_C139238.pdf; ComponentLink2Description: JLCPCB Part URL; ComponentLink2URL: https://jlcpcb.com/partdetail/C139238; ComponentLink3Description: LCSC Part URL; ComponentLink3URL: https://lcsc.com/product-detail/Inductors-SMD_FH-Guangdong-Fenghua-Advanced-Tech-FH-Guangdong-Fenghua-Advanced-Tech-CMI321609X6R8KT_C139238.html
footprint IND-1206 (1206 (3216M) Inductor)
pins: 1, 2

## CMI321609X8R2KT
designator L?  Inductance: 8.2uH
Inductor, 8.2uH, ±10%, 800mΩ, 25mA, SMD 1206; Manufacturer: FH(Guangdong Fenghua Advanced Tech); Manufacturer Part Number: CMI321609X8R2KT; Self-Resonant Frequency: 26MHz; Q Factor: 35@4MHz; Package Size: 1206; JLCPCB Basic Part: No; JLCPCB Part Number: C139239; Supplier 1: LCSC; Category: Inductors; Supplier Part Number 1: C139239; Tolerance: ±10%; Rated Current: 25mA; DC Resistance: 800mΩ; RoHS: Yes; ComponentLink1Description: Datasheet; ComponentLink1URL: https://wmsc.lcsc.com/wmsc/upload/file/pdf/v2/lcsc/2302231230_FH--Guangdong-Fenghua-Advanced-Tech-CMI321609X8R2KT_C139239.pdf; ComponentLink2Description: JLCPCB Part URL; ComponentLink2URL: https://jlcpcb.com/partdetail/C139239; ComponentLink3Description: LCSC Part URL; ComponentLink3URL: https://lcsc.com/product-detail/Inductors-SMD_FH-Guangdong-Fenghua-Advanced-Tech-FH-Guangdong-Fenghua-Advanced-Tech-CMI321609X8R2KT_C139239.html
footprint IND-1206 (1206 (3216M) Inductor)
pins: 1, 2

## CMI321609X100KT
designator L?  Inductance: 10uH
Inductor, 10uH, ±10%, 800mΩ, 25mA, SMD 1206; Manufacturer: FH(Guangdong Fenghua Advanced Tech); Manufacturer Part Number: CMI321609X100KT; Self-Resonant Frequency: 24MHz; Q Factor: 35@2MHz; Package Size: 1206; JLCPCB Basic Part: No; JLCPCB Part Number: C1051; Supplier 1: LCSC; Category: Inductors; Supplier Part Number 1: C1051; Tolerance: ±10%; Rated Current: 25mA; DC Resistance: 800mΩ; RoHS: Yes; ComponentLink1Description: Datasheet; ComponentLink1URL: https://wmsc.lcsc.com/wmsc/upload/file/pdf/v2/lcsc/2302231101_FH--Guangdong-Fenghua-Advanced-Tech-CMI321609X100KT_C1051.pdf; ComponentLink2Description: JLCPCB Part URL; ComponentLink2URL: https://jlcpcb.com/partdetail/C1051; ComponentLink3Description: LCSC Part URL; ComponentLink3URL: https://lcsc.com/product-detail/Inductors-SMD_FH-Guangdong-Fenghua-Advanced-Tech-FH-Guangdong-Fenghua-Advanced-Tech-CMI321609X100KT_C1051.html
footprint IND-1206 (1206 (3216M) Inductor)
pins: 1, 2

## CMI321609X120KT
designator L?  Inductance: 12uH
Inductor, 12uH, ±10%, 900mΩ, 15mA, SMD 1206; Manufacturer: FH(Guangdong Fenghua Advanced Tech); Manufacturer Part Number: CMI321609X120KT; Self-Resonant Frequency: 22MHz; Q Factor: 35@2MHz; Package Size: 1206; JLCPCB Basic Part: No; JLCPCB Part Number: C394988; Supplier 1: LCSC; Category: Inductors; Supplier Part Number 1: C394988; Tolerance: ±10%; Rated Current: 15mA; DC Resistance: 900mΩ; RoHS: Yes; ComponentLink1Description: Datasheet; ComponentLink1URL: https://wmsc.lcsc.com/wmsc/upload/file/pdf/v2/lcsc/2302231030_FH--Guangdong-Fenghua-Advanced-Tech-CMI321609X120KT_C394988.pdf; ComponentLink2Description: JLCPCB Part URL; ComponentLink2URL: https://jlcpcb.com/partdetail/C394988; ComponentLink3Description: LCSC Part URL; ComponentLink3URL: https://lcsc.com/product-detail/Inductors-SMD_FH-Guangdong-Fenghua-Advanced-Tech-FH-Guangdong-Fenghua-Advanced-Tech-CMI321609X120KT_C394988.html
footprint IND-1206 (1206 (3216M) Inductor)
pins: 1, 2

## CMI321611J101KT
designator L?  Inductance: 100uH
Inductor, 100uH, ±10%, SMD 1206; Manufacturer: FH(Guangdong Fenghua Advanced Tech); Manufacturer Part Number: CMI321611J101KT; Package Size: 1206; JLCPCB Basic Part: No; JLCPCB Part Number: C128802; Supplier 1: LCSC; Category: Inductors; Supplier Part Number 1: C128802; Tolerance: ±10%; RoHS: Yes; ComponentLink1Description: Datasheet; ComponentLink1URL: https://wmsc.lcsc.com/wmsc/upload/file/pdf/v2/lcsc/2304140030_FH--Guangdong-Fenghua-Advanced-Tech-CMI321611J101KT_C128802.pdf; ComponentLink2Description: JLCPCB Part URL; ComponentLink2URL: https://jlcpcb.com/partdetail/C128802; ComponentLink3Description: LCSC Part URL; ComponentLink3URL: https://lcsc.com/product-detail/Inductors-SMD_FH-Guangdong-Fenghua-Advanced-Tech-FH-Guangdong-Fenghua-Advanced-Tech-CMI321611J101KT_C128802.html
footprint IND-1206 (1206 (3216M) Inductor)
pins: 1, 2

## CMI321611J470KT
designator L?  Inductance: 47uH
Inductor, 47uH, ±10%, 1.6Ω, 5mA, SMD 1206; Manufacturer: FH(Guangdong Fenghua Advanced Tech); Manufacturer Part Number: CMI321611J470KT; Self-Resonant Frequency: 12MHz; Q Factor: 30@1MHz; Package Size: 1206; JLCPCB Basic Part: No; JLCPCB Part Number: C75660; Supplier 1: LCSC; Category: Inductors; Supplier Part Number 1: C75660; Tolerance: ±10%; Rated Current: 5mA; DC Resistance: 1.6Ω; RoHS: Yes; ComponentLink1Description: Datasheet; ComponentLink1URL: https://wmsc.lcsc.com/wmsc/upload/file/pdf/v2/lcsc/2302231101_FH--Guangdong-Fenghua-Advanced-Tech-CMI321611J470KT_C75660.pdf; ComponentLink2Description: JLCPCB Part URL; ComponentLink2URL: https://jlcpcb.com/partdetail/C75660; ComponentLink3Description: LCSC Part URL; ComponentLink3URL: https://lcsc.com/product-detail/Inductors-SMD_FH-Guangdong-Fenghua-Advanced-Tech-FH-Guangdong-Fenghua-Advanced-Tech-CMI321611J470KT_C75660.html
footprint IND-1206 (1206 (3216M) Inductor)
pins: 1, 2

## CMI321611J560KT
designator L?  Inductance: 56uH
Inductor, 56uH, ±10%, SMD 1206; Manufacturer: FH(Guangdong Fenghua Advanced Tech); Manufacturer Part Number: CMI321611J560KT; Package Size: 1206; JLCPCB Basic Part: No; JLCPCB Part Number: C185914; Supplier 1: LCSC; Category: Inductors; Supplier Part Number 1: C185914; Tolerance: ±10%; RoHS: Yes; ComponentLink1Description: Datasheet; ComponentLink1URL: https://wmsc.lcsc.com/wmsc/upload/file/pdf/v2/lcsc/1912111437_FH--Guangdong-Fenghua-Advanced-Tech-CMI321611J560KT_C185914.pdf; ComponentLink2Description: JLCPCB Part URL; ComponentLink2URL: https://jlcpcb.com/partdetail/C185914; ComponentLink3Description: LCSC Part URL; ComponentLink3URL: https://lcsc.com/product-detail/Inductors-SMD_FH-Guangdong-Fenghua-Advanced-Tech-FH-Guangdong-Fenghua-Advanced-Tech-CMI321611J560KT_C185914.html
footprint IND-1206 (1206 (3216M) Inductor)
pins: 1, 2

## CMI321611J560MT
designator L?  Inductance: 56uH
Inductor, 56uH, ±20%, 1.8Ω, 5mA, SMD 1206; Manufacturer: FH(Guangdong Fenghua Advanced Tech); Manufacturer Part Number: CMI321611J560MT; Self-Resonant Frequency: 12MHz; Q Factor: 30@1MHz; Package Size: 1206; JLCPCB Basic Part: No; JLCPCB Part Number: C75657; Supplier 1: LCSC; Category: Inductors; Supplier Part Number 1: C75657; Tolerance: ±20%; Rated Current: 5mA; DC Resistance: 1.8Ω; RoHS: Yes; ComponentLink1Description: Datasheet; ComponentLink1URL: https://wmsc.lcsc.com/wmsc/upload/file/pdf/v2/lcsc/2302231101_FH--Guangdong-Fenghua-Advanced-Tech-CMI321611J560MT_C75657.pdf; ComponentLink2Description: JLCPCB Part URL; ComponentLink2URL: https://jlcpcb.com/partdetail/C75657; ComponentLink3Description: LCSC Part URL; ComponentLink3URL: https://lcsc.com/product-detail/Inductors-SMD_FH-Guangdong-Fenghua-Advanced-Tech-FH-Guangdong-Fenghua-Advanced-Tech-CMI321611J560MT_C75657.html
footprint IND-1206 (1206 (3216M) Inductor)
pins: 1, 2

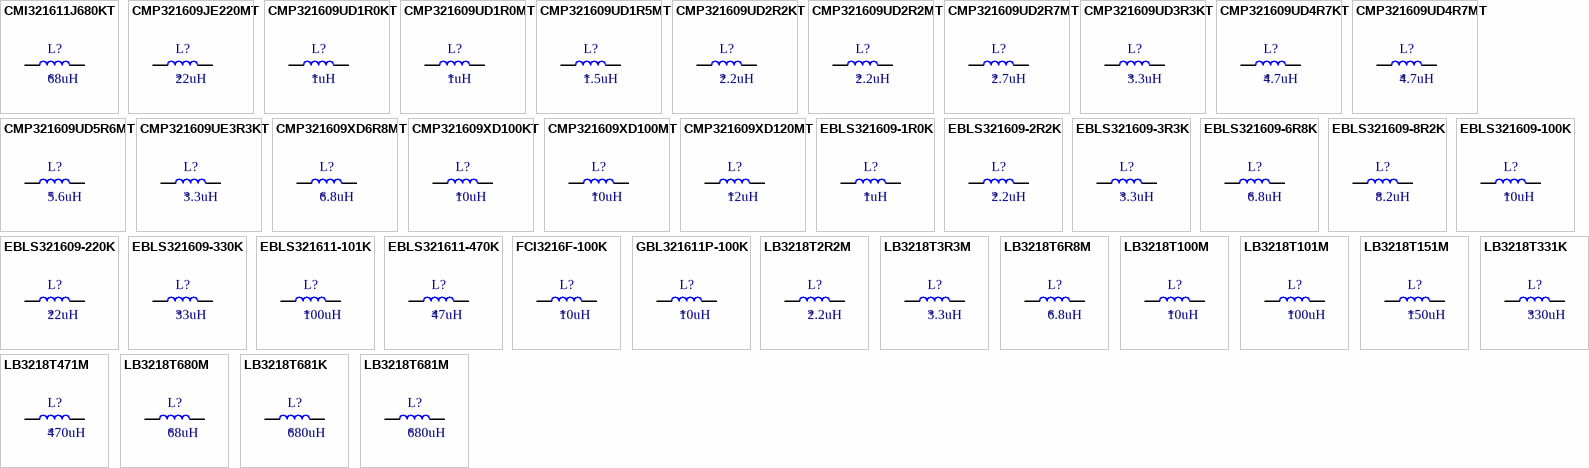
[diagram p1: symbols CMI321611J680KT to LB3218T681M]

## CMI321611J680KT
designator L?  Inductance: 68uH
Inductor, 68uH, ±10%, SMD 1206; Manufacturer: FH(Guangdong Fenghua Advanced Tech); Manufacturer Part Number: CMI321611J680KT; Package Size: 1206; JLCPCB Basic Part: No; JLCPCB Part Number: C394989; Supplier 1: LCSC; Category: Inductors; Supplier Part Number 1: C394989; Tolerance: ±10%; RoHS: Yes; ComponentLink1Description: Datasheet; ComponentLink1URL: https://wmsc.lcsc.com/wmsc/upload/file/pdf/v2/lcsc/1912111437_FH--Guangdong-Fenghua-Advanced-Tech-CMI321611J680KT_C394989.pdf; ComponentLink2Description: JLCPCB Part URL; ComponentLink2URL: https://jlcpcb.com/partdetail/C394989; ComponentLink3Description: LCSC Part URL; ComponentLink3URL: https://lcsc.com/product-detail/Inductors-SMD_FH-Guangdong-Fenghua-Advanced-Tech-FH-Guangdong-Fenghua-Advanced-Tech-CMI321611J680KT_C394989.html
footprint IND-1206 (1206 (3216M) Inductor)
pins: 1, 2

## CMP321609JE220MT
designator L?  Inductance: 22uH
Inductor, 22uH, ±20%, 1Ω, 50mA, SMD 1206; Manufacturer: FH(Guangdong Fenghua Advanced Tech); Manufacturer Part Number: CMP321609JE220MT; Self-Resonant Frequency: 16MHz; Package Size: 1206; JLCPCB Basic Part: No; JLCPCB Part Number: C395020; Supplier 1: LCSC; Category: Inductors; Supplier Part Number 1: C395020; Tolerance: ±20%; Rated Current: 50mA; DC Resistance: 1Ω; RoHS: Yes; ComponentLink1Description: Datasheet; ComponentLink1URL: https://wmsc.lcsc.com/wmsc/upload/file/pdf/v2/lcsc/2302231208_FH--Guangdong-Fenghua-Advanced-Tech-CMP321609JE220MT_C395020.pdf; ComponentLink2Description: JLCPCB Part URL; ComponentLink2URL: https://jlcpcb.com/partdetail/C395020; ComponentLink3Description: LCSC Part URL; ComponentLink3URL: https://lcsc.com/product-detail/Inductors-SMD_FH-Guangdong-Fenghua-Advanced-Tech-FH-Guangdong-Fenghua-Advanced-Tech-CMP321609JE220MT_C395020.html
footprint IND-1206 (1206 (3216M) Inductor)
pins: 1, 2

## CMP321609UD1R0KT
designator L?  Inductance: 1uH
Inductor, 1uH, ±10%, SMD 1206; Manufacturer: FH(Guangdong Fenghua Advanced Tech); Manufacturer Part Number: CMP321609UD1R0KT; Package Size: 1206; JLCPCB Basic Part: No; JLCPCB Part Number: C395021; Supplier 1: LCSC; Category: Inductors; Supplier Part Number 1: C395021; Tolerance: ±10%; RoHS: Yes; ComponentLink1Description: Datasheet; ComponentLink1URL: https://wmsc.lcsc.com/wmsc/upload/file/pdf/v2/lcsc/2304140030_FH--Guangdong-Fenghua-Advanced-Tech-CMP321609UD1R0KT_C395021.pdf; ComponentLink2Description: JLCPCB Part URL; ComponentLink2URL: https://jlcpcb.com/partdetail/C395021; ComponentLink3Description: LCSC Part URL; ComponentLink3URL: https://lcsc.com/product-detail/Inductors-SMD_FH-Guangdong-Fenghua-Advanced-Tech-FH-Guangdong-Fenghua-Advanced-Tech-CMP321609UD1R0KT_C395021.html
footprint IND-1206 (1206 (3216M) Inductor)
pins: 1, 2

## CMP321609UD1R0MT
designator L?  Inductance: 1uH
Inductor, 1uH, ±20%, 150mΩ, 1.2A, SMD 1206; Manufacturer: FH(Guangdong Fenghua Advanced Tech); Manufacturer Part Number: CMP321609UD1R0MT; Self-Resonant Frequency: 60MHz; Package Size: 1206; JLCPCB Basic Part: No; JLCPCB Part Number: C139248; Supplier 1: LCSC; Category: Inductors; Supplier Part Number 1: C139248; Tolerance: ±20%; Rated Current: 1.2A; DC Resistance: 150mΩ; RoHS: Yes; ComponentLink1Description: Datasheet; ComponentLink1URL: https://wmsc.lcsc.com/wmsc/upload/file/pdf/v2/lcsc/2302231230_FH--Guangdong-Fenghua-Advanced-Tech-CMP321609UD1R0MT_C139248.pdf; ComponentLink2Description: JLCPCB Part URL; ComponentLink2URL: https://jlcpcb.com/partdetail/C139248; ComponentLink3Description: LCSC Part URL; ComponentLink3URL: https://lcsc.com/product-detail/Inductors-SMD_FH-Guangdong-Fenghua-Advanced-Tech-FH-Guangdong-Fenghua-Advanced-Tech-CMP321609UD1R0MT_C139248.html
footprint IND-1206 (1206 (3216M) Inductor)
pins: 1, 2

## CMP321609UD1R5MT
designator L?  Inductance: 1.5uH
Inductor, 1.5uH, ±20%, 170mΩ, 1A, SMD 1206; Manufacturer: FH(Guangdong Fenghua Advanced Tech); Manufacturer Part Number: CMP321609UD1R5MT; Self-Resonant Frequency: 60MHz; Package Size: 1206; JLCPCB Basic Part: No; JLCPCB Part Number: C395022; Supplier 1: LCSC; Category: Inductors; Supplier Part Number 1: C395022; Tolerance: ±20%; Rated Current: 1A; DC Resistance: 170mΩ; RoHS: Yes; ComponentLink1Description: Datasheet; ComponentLink1URL: https://wmsc.lcsc.com/wmsc/upload/file/pdf/v2/lcsc/2302231208_FH--Guangdong-Fenghua-Advanced-Tech-CMP321609UD1R5MT_C395022.pdf; ComponentLink2Description: JLCPCB Part URL; ComponentLink2URL: https://jlcpcb.com/partdetail/C395022; ComponentLink3Description: LCSC Part URL; ComponentLink3URL: https://lcsc.com/product-detail/Inductors-SMD_FH-Guangdong-Fenghua-Advanced-Tech-FH-Guangdong-Fenghua-Advanced-Tech-CMP321609UD1R5MT_C395022.html
footprint IND-1206 (1206 (3216M) Inductor)
pins: 1, 2

## CMP321609UD2R2KT
designator L?  Inductance: 2.2uH
Inductor, 2.2uH, ±10%, SMD 1206; Manufacturer: FH(Guangdong Fenghua Advanced Tech); Manufacturer Part Number: CMP321609UD2R2KT; Package Size: 1206; JLCPCB Basic Part: No; JLCPCB Part Number: C395023; Supplier 1: LCSC; Category: Inductors; Supplier Part Number 1: C395023; Tolerance: ±10%; RoHS: Yes; ComponentLink1Description: Datasheet; ComponentLink1URL: https://wmsc.lcsc.com/wmsc/upload/file/pdf/v2/lcsc/2304140030_FH--Guangdong-Fenghua-Advanced-Tech-CMP321609UD2R2KT_C395023.pdf; ComponentLink2Description: JLCPCB Part URL; ComponentLink2URL: https://jlcpcb.com/partdetail/C395023; ComponentLink3Description: LCSC Part URL; ComponentLink3URL: https://lcsc.com/product-detail/Inductors-SMD_FH-Guangdong-Fenghua-Advanced-Tech-FH-Guangdong-Fenghua-Advanced-Tech-CMP321609UD2R2KT_C395023.html
footprint IND-1206 (1206 (3216M) Inductor)
pins: 1, 2

## CMP321609UD2R2MT
designator L?  Inductance: 2.2uH
Inductor, 2.2uH, ±20%, 240mΩ, 900mA, SMD 1206; Manufacturer: FH(Guangdong Fenghua Advanced Tech); Manufacturer Part Number: CMP321609UD2R2MT; Self-Resonant Frequency: 50MHz; Package Size: 1206; JLCPCB Basic Part: No; JLCPCB Part Number: C139249; Supplier 1: LCSC; Category: Inductors; Supplier Part Number 1: C139249; Tolerance: ±20%; Rated Current: 900mA; DC Resistance: 240mΩ; RoHS: Yes; ComponentLink1Description: Datasheet; ComponentLink1URL: https://wmsc.lcsc.com/wmsc/upload/file/pdf/v2/lcsc/2302231230_FH--Guangdong-Fenghua-Advanced-Tech-CMP321609UD2R2MT_C139249.pdf; ComponentLink2Description: JLCPCB Part URL; ComponentLink2URL: https://jlcpcb.com/partdetail/C139249; ComponentLink3Description: LCSC Part URL; ComponentLink3URL: https://lcsc.com/product-detail/Inductors-SMD_FH-Guangdong-Fenghua-Advanced-Tech-FH-Guangdong-Fenghua-Advanced-Tech-CMP321609UD2R2MT_C139249.html
footprint IND-1206 (1206 (3216M) Inductor)
pins: 1, 2

## CMP321609UD2R7MT
designator L?  Inductance: 2.7uH
Inductor, 2.7uH, ±20%, 300mΩ, 800mA, SMD 1206; Manufacturer: FH(Guangdong Fenghua Advanced Tech); Manufacturer Part Number: CMP321609UD2R7MT; Self-Resonant Frequency: 45MHz; Package Size: 1206; JLCPCB Basic Part: No; JLCPCB Part Number: C395024; Supplier 1: LCSC; Category: Inductors; Supplier Part Number 1: C395024; Tolerance: ±20%; Rated Current: 800mA; DC Resistance: 300mΩ; RoHS: Yes; ComponentLink1Description: Datasheet; ComponentLink1URL: https://wmsc.lcsc.com/wmsc/upload/file/pdf/v2/lcsc/2302231208_FH--Guangdong-Fenghua-Advanced-Tech-CMP321609UD2R7MT_C395024.pdf; ComponentLink2Description: JLCPCB Part URL; ComponentLink2URL: https://jlcpcb.com/partdetail/C395024; ComponentLink3Description: LCSC Part URL; ComponentLink3URL: https://lcsc.com/product-detail/Inductors-SMD_FH-Guangdong-Fenghua-Advanced-Tech-FH-Guangdong-Fenghua-Advanced-Tech-CMP321609UD2R7MT_C395024.html
footprint IND-1206 (1206 (3216M) Inductor)
pins: 1, 2

## CMP321609UD3R3KT
designator L?  Inductance: 3.3uH
Inductor, 3.3uH, ±10%, SMD 1206; Manufacturer: FH(Guangdong Fenghua Advanced Tech); Manufacturer Part Number: CMP321609UD3R3KT; Package Size: 1206; JLCPCB Basic Part: No; JLCPCB Part Number: C395025; Supplier 1: LCSC; Category: Inductors; Supplier Part Number 1: C395025; Tolerance: ±10%; RoHS: Yes; ComponentLink1Description: Datasheet; ComponentLink1URL: https://wmsc.lcsc.com/wmsc/upload/file/pdf/v2/lcsc/1912111437_FH--Guangdong-Fenghua-Advanced-Tech-CMP321609UD3R3KT_C395025.pdf; ComponentLink2Description: JLCPCB Part URL; ComponentLink2URL: https://jlcpcb.com/partdetail/C395025; ComponentLink3Description: LCSC Part URL; ComponentLink3URL: https://lcsc.com/product-detail/Inductors-SMD_FH-Guangdong-Fenghua-Advanced-Tech-FH-Guangdong-Fenghua-Advanced-Tech-CMP321609UD3R3KT_C395025.html
footprint IND-1206 (1206 (3216M) Inductor)
pins: 1, 2

## CMP321609UD4R7KT
designator L?  Inductance: 4.7uH
Inductor, 4.7uH, ±10%, SMD 1206; Manufacturer: FH(Guangdong Fenghua Advanced Tech); Manufacturer Part Number: CMP321609UD4R7KT; Package Size: 1206; JLCPCB Basic Part: No; JLCPCB Part Number: C395026; Supplier 1: LCSC; Category: Inductors; Supplier Part Number 1: C395026; Tolerance: ±10%; RoHS: Yes; ComponentLink1Description: Datasheet; ComponentLink1URL: https://wmsc.lcsc.com/wmsc/upload/file/pdf/v2/lcsc/1912111437_FH--Guangdong-Fenghua-Advanced-Tech-CMP321609UD4R7KT_C395026.pdf; ComponentLink2Description: JLCPCB Part URL; ComponentLink2URL: https://jlcpcb.com/partdetail/C395026; ComponentLink3Description: LCSC Part URL; ComponentLink3URL: https://lcsc.com/product-detail/Inductors-SMD_FH-Guangdong-Fenghua-Advanced-Tech-FH-Guangdong-Fenghua-Advanced-Tech-CMP321609UD4R7KT_C395026.html
footprint IND-1206 (1206 (3216M) Inductor)
pins: 1, 2